# Altium integrated library Maxim Sensors.IntLib: 1171 symbols (part 50 of 61)
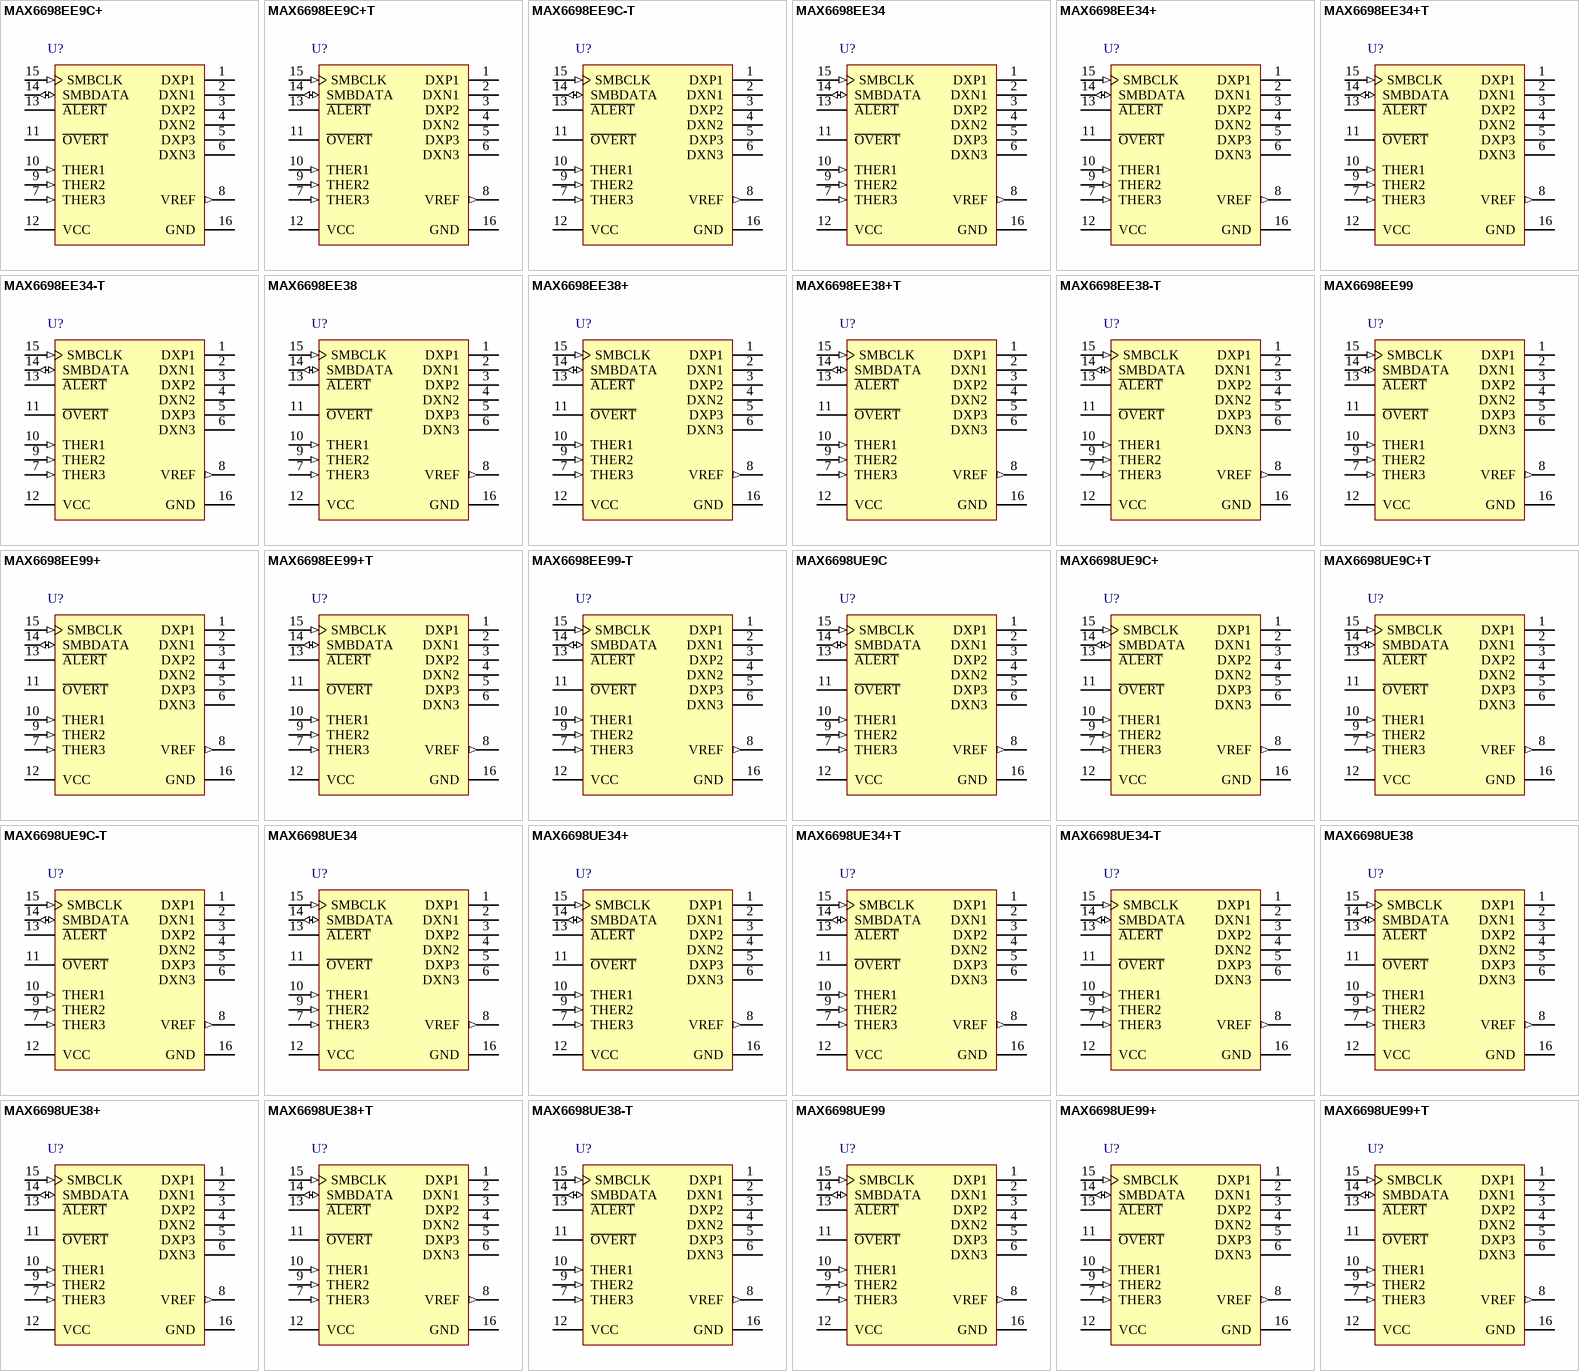
[diagram p82: symbols MAX6698EE9C+ to MAX6698UE99+T]

## MAX6698EE34+
designator U?
7-Channel Precision Remote-Diode, Thermistor, and Local Temperature Monitor, 11 Bits Temperature Resolution, -40 to 125 degC, 16-Pin SOP (E16+1), Pb-Free; Generic Part Number: MAX6698; PartNumber: MAX6698EE34+; Alarm Output: Alert, Overt; Functions: Multi-Channel Temperature Monitor, Thermistor-to-Digital Converter; Interface: 2-Wire/I2C/SMBus; Parasite Pwr.: No; DatasheetVersion: Rev. 3; PackageVersion: Rev. K, 04/2012; PackageReference: E16+1; PackageDescription: 16-Pin Quarter Small-Outline Package (E16+1), Body 4.90 x 3.89 mm, Pitch 0.635 mm; Supplier 1: Digi-Key; Supplier Part Number 1: MAX6698EE34+-ND; Supplier 2: Mouser; Supplier Part Number 2: 700-MAX6698EE34; Mounting Technology: Surface Mount; Code_JEDEC: MO137; ComponentLink1Description: Manufacturer URL; ComponentLink1URL: http://www.maximintegrated.com/; ComponentLink2Description: Datasheet; ComponentLink2URL: http://datasheets.maximintegrated.com/en/ds/MAX6698.pdf; ComponentLink3Description: Package Specification; ComponentLink3URL: http://pdfserv.maximintegrated.com/package_dwgs/21-0055.PDF
footprint MAXM-E16+1_N (SOP, 16-Leads, Body 4.9x3.89mm, Pitch 0.635mm, IPC Medium Density)
footprint MAXM-E16+1_L (SOP, 16-Leads, Body 4.9x3.89mm, Pitch 0.635mm, IPC High Density)
footprint MAXM-E16+1_M (SOP, 16-Leads, Body 4.9x3.89mm, Pitch 0.635mm, IPC Low Density)
pins: 1 DXP1 "Combined Current Source and A/D Positive Input for Channel 1 Remote Diode. Connect to the anode of a remote-diode-connected temperature-sensing transistor. Leave floating or connect to VCC if no remote diode is used. Place a (See Datasheet)", 2 DXN1 "Cathode Input for Channel 1 Remote Diode. Connect the cathode of the channel 1 remote-diodeconnected transistor to DXN1.", 3 DXP2 "Combined Current Source and A/D Positive Input for Channel 2 Remote Diode. Connect to the anode of a remote-diode-connected temperature-sensing transistor. Leave floating or connect to VCC if no remote diode is used. Place a (See Datasheet)", 4 DXN2 "Cathode Input for Channel 2 Remote Diode. Connect the cathode of the channel 2 remote-diodeconnected transistor to DXN2.", 5 DXP3 "Combined Current Source and A/D Positive Input for Channel 3 Remote Diode. Connect to the anode of a remote-diode-connected temperature-sensing transistor. Leave floating or connect to VCC if no remote diode is used. Place a (See Datasheet)", 6 DXN3 "Cathode Input for Channel 3 Remote Diode. Connect the cathode of the channel 1 remote-diodeconnected transistor to DXN3.", 7 THER3 (in) "Thermistor Voltage Sense Input 3. Connect thermistor 3 between THER3 and ground and an external resistor REXT3 between THER3 and VREF.", 8 VREF (out) "Thermistor Reference Voltage (1V Nominal). VREF is automatically enabled for a thermistor conversion, and is disabled for diode measurements.", 9 THER2 (in) "Thermistor Voltage Sense Input 2. Connect thermistor 2 between THER2 and ground and an external resistor REXT3 between THER2 and VREF.", 10 THER1 (in) "Thermistor Voltage Sense Input 1. Connect thermistor 1 between THER1 and ground and an external resistor REXT3 between THER1 and VREF", 11 ~{OVERT} (oc) "Overtemperature Active-Low, Open-Drain Output. O\V\E\R\T\ asserts low when the temperature of channels 1, 4, 5, and 6 exceed the programmed threshold limit.", 12 VCC (power) "Supply Voltage Input. Bypass to GND with a 0.1uF capacitor.", 13 ~{ALERT} (oc) "SMBus Alert (Interrupt), Active-Low, Open-Drain Output. A\L\E\R\T\ asserts low when the temperature of channels 1, 4, 5, and 6 exceed programmed threshold limit.", 14 SMBDATA (io) "SMBus Serial-Data Input/Output. Connect to a pullup resistor.", 15 SMBCLK (in) "SMBus Serial-Clock Input. Connect to a pullup resistor.", 16 GND (power) "Ground"

## MAX6698EE34+T
designator U?
7-Channel Precision Remote-Diode, Thermistor, and Local Temperature Monitor, 11 Bits Temperature Resolution, -40 to 125 degC, 16-Pin SOP (E16+1), Pb-Free, Tape and Reel; Generic Part Number: MAX6698; PartNumber: MAX6698EE34+T; Alarm Output: Alert, Overt; Functions: Multi-Channel Temperature Monitor, Thermistor-to-Digital Converter; Interface: 2-Wire/I2C/SMBus; Parasite Pwr.: No; DatasheetVersion: Rev. 3; PackageVersion: Rev. K, 04/2012; PackageReference: E16+1; PackageDescription: 16-Pin Quarter Small-Outline Package (E16+1), Body 4.90 x 3.89 mm, Pitch 0.635 mm; Supplier 1: Digi-Key; Supplier Part Number 1: MAX6698EE34+T-ND; Supplier 2: Mouser; Supplier Part Number 2: 700-MAX6698EE34T; Packing: Tape and Reel; Mounting Technology: Surface Mount; Code_JEDEC: MO137; ComponentLink1Description: Manufacturer URL; ComponentLink1URL: http://www.maximintegrated.com/; ComponentLink2Description: Datasheet; ComponentLink2URL: http://datasheets.maximintegrated.com/en/ds/MAX6698.pdf; ComponentLink3Description: Package Specification; ComponentLink3URL: http://pdfserv.maximintegrated.com/package_dwgs/21-0055.PDF
footprint MAXM-E16+1_N (SOP, 16-Leads, Body 4.9x3.89mm, Pitch 0.635mm, IPC Medium Density)
footprint MAXM-E16+1_L (SOP, 16-Leads, Body 4.9x3.89mm, Pitch 0.635mm, IPC High Density)
footprint MAXM-E16+1_M (SOP, 16-Leads, Body 4.9x3.89mm, Pitch 0.635mm, IPC Low Density)
pins: 1 DXP1 "Combined Current Source and A/D Positive Input for Channel 1 Remote Diode. Connect to the anode of a remote-diode-connected temperature-sensing transistor. Leave floating or connect to VCC if no remote diode is used. Place a (See Datasheet)", 2 DXN1 "Cathode Input for Channel 1 Remote Diode. Connect the cathode of the channel 1 remote-diodeconnected transistor to DXN1.", 3 DXP2 "Combined Current Source and A/D Positive Input for Channel 2 Remote Diode. Connect to the anode of a remote-diode-connected temperature-sensing transistor. Leave floating or connect to VCC if no remote diode is used. Place a (See Datasheet)", 4 DXN2 "Cathode Input for Channel 2 Remote Diode. Connect the cathode of the channel 2 remote-diodeconnected transistor to DXN2.", 5 DXP3 "Combined Current Source and A/D Positive Input for Channel 3 Remote Diode. Connect to the anode of a remote-diode-connected temperature-sensing transistor. Leave floating or connect to VCC if no remote diode is used. Place a (See Datasheet)", 6 DXN3 "Cathode Input for Channel 3 Remote Diode. Connect the cathode of the channel 1 remote-diodeconnected transistor to DXN3.", 7 THER3 (in) "Thermistor Voltage Sense Input 3. Connect thermistor 3 between THER3 and ground and an external resistor REXT3 between THER3 and VREF.", 8 VREF (out) "Thermistor Reference Voltage (1V Nominal). VREF is automatically enabled for a thermistor conversion, and is disabled for diode measurements.", 9 THER2 (in) "Thermistor Voltage Sense Input 2. Connect thermistor 2 between THER2 and ground and an external resistor REXT3 between THER2 and VREF.", 10 THER1 (in) "Thermistor Voltage Sense Input 1. Connect thermistor 1 between THER1 and ground and an external resistor REXT3 between THER1 and VREF", 11 ~{OVERT} (oc) "Overtemperature Active-Low, Open-Drain Output. O\V\E\R\T\ asserts low when the temperature of channels 1, 4, 5, and 6 exceed the programmed threshold limit.", 12 VCC (power) "Supply Voltage Input. Bypass to GND with a 0.1uF capacitor.", 13 ~{ALERT} (oc) "SMBus Alert (Interrupt), Active-Low, Open-Drain Output. A\L\E\R\T\ asserts low when the temperature of channels 1, 4, 5, and 6 exceed programmed threshold limit.", 14 SMBDATA (io) "SMBus Serial-Data Input/Output. Connect to a pullup resistor.", 15 SMBCLK (in) "SMBus Serial-Clock Input. Connect to a pullup resistor.", 16 GND (power) "Ground"

## MAX6698EE34-T
designator U?
7-Channel Precision Remote-Diode, Thermistor, and Local Temperature Monitor, 11 Bits Temperature Resolution, -40 to 125 degC, 16-Pin SOP (E16-1), Tape and Reel; Generic Part Number: MAX6698; PartNumber: MAX6698EE34-T; Alarm Output: Alert, Overt; Functions: Multi-Channel Temperature Monitor, Thermistor-to-Digital Converter; Interface: 2-Wire/I2C/SMBus; Parasite Pwr.: No; DatasheetVersion: Rev. 3; PackageVersion: Rev. K, 04/2012; PackageReference: E16-1; PackageDescription: 16-Pin Quarter Small-Outline Package (E16-1), Body 4.90 x 3.89 mm, Pitch 0.635 mm; Supplier 1: Mouser; Supplier Part Number 1: N/A; Packing: Tape and Reel; Mounting Technology: Surface Mount; Code_JEDEC: MO137; ComponentLink1Description: Manufacturer URL; ComponentLink1URL: http://www.maximintegrated.com/; ComponentLink2Description: Datasheet; ComponentLink2URL: http://datasheets.maximintegrated.com/en/ds/MAX6698.pdf; ComponentLink3Description: Package Specification; ComponentLink3URL: http://pdfserv.maximintegrated.com/package_dwgs/21-0055.PDF
footprint MAXM-E16-1_N (SOP, 16-Leads, Body 4.9x3.89mm, Pitch 0.635mm, IPC Medium Density)
footprint MAXM-E16-1_L (SOP, 16-Leads, Body 4.9x3.89mm, Pitch 0.635mm, IPC High Density)
footprint MAXM-E16-1_M (SOP, 16-Leads, Body 4.9x3.89mm, Pitch 0.635mm, IPC Low Density)
pins: 1 DXP1 "Combined Current Source and A/D Positive Input for Channel 1 Remote Diode. Connect to the anode of a remote-diode-connected temperature-sensing transistor. Leave floating or connect to VCC if no remote diode is used. Place a (See Datasheet)", 2 DXN1 "Cathode Input for Channel 1 Remote Diode. Connect the cathode of the channel 1 remote-diodeconnected transistor to DXN1.", 3 DXP2 "Combined Current Source and A/D Positive Input for Channel 2 Remote Diode. Connect to the anode of a remote-diode-connected temperature-sensing transistor. Leave floating or connect to VCC if no remote diode is used. Place a (See Datasheet)", 4 DXN2 "Cathode Input for Channel 2 Remote Diode. Connect the cathode of the channel 2 remote-diodeconnected transistor to DXN2.", 5 DXP3 "Combined Current Source and A/D Positive Input for Channel 3 Remote Diode. Connect to the anode of a remote-diode-connected temperature-sensing transistor. Leave floating or connect to VCC if no remote diode is used. Place a (See Datasheet)", 6 DXN3 "Cathode Input for Channel 3 Remote Diode. Connect the cathode of the channel 1 remote-diodeconnected transistor to DXN3.", 7 THER3 (in) "Thermistor Voltage Sense Input 3. Connect thermistor 3 between THER3 and ground and an external resistor REXT3 between THER3 and VREF.", 8 VREF (out) "Thermistor Reference Voltage (1V Nominal). VREF is automatically enabled for a thermistor conversion, and is disabled for diode measurements.", 9 THER2 (in) "Thermistor Voltage Sense Input 2. Connect thermistor 2 between THER2 and ground and an external resistor REXT3 between THER2 and VREF.", 10 THER1 (in) "Thermistor Voltage Sense Input 1. Connect thermistor 1 between THER1 and ground and an external resistor REXT3 between THER1 and VREF", 11 ~{OVERT} (oc) "Overtemperature Active-Low, Open-Drain Output. O\V\E\R\T\ asserts low when the temperature of channels 1, 4, 5, and 6 exceed the programmed threshold limit.", 12 VCC (power) "Supply Voltage Input. Bypass to GND with a 0.1uF capacitor.", 13 ~{ALERT} (oc) "SMBus Alert (Interrupt), Active-Low, Open-Drain Output. A\L\E\R\T\ asserts low when the temperature of channels 1, 4, 5, and 6 exceed programmed threshold limit.", 14 SMBDATA (io) "SMBus Serial-Data Input/Output. Connect to a pullup resistor.", 15 SMBCLK (in) "SMBus Serial-Clock Input. Connect to a pullup resistor.", 16 GND (power) "Ground"

## MAX6698EE38
designator U?
7-Channel Precision Remote-Diode, Thermistor, and Local Temperature Monitor, 11 Bits Temperature Resolution, -40 to 125 degC, 16-Pin SOP (E16-1); Generic Part Number: MAX6698; PartNumber: MAX6698EE38; Alarm Output: Alert, Overt; Functions: Multi-Channel Temperature Monitor, Thermistor-to-Digital Converter; Interface: 2-Wire/I2C/SMBus; Parasite Pwr.: No; DatasheetVersion: Rev. 3; PackageVersion: Rev. K, 04/2012; PackageReference: E16-1; PackageDescription: 16-Pin Quarter Small-Outline Package (E16-1), Body 4.90 x 3.89 mm, Pitch 0.635 mm; Supplier 1: Mouser; Supplier Part Number 1: N/A; Mounting Technology: Surface Mount; Code_JEDEC: MO137; ComponentLink1Description: Manufacturer URL; ComponentLink1URL: http://www.maximintegrated.com/; ComponentLink2Description: Datasheet; ComponentLink2URL: http://datasheets.maximintegrated.com/en/ds/MAX6698.pdf; ComponentLink3Description: Package Specification; ComponentLink3URL: http://pdfserv.maximintegrated.com/package_dwgs/21-0055.PDF
footprint MAXM-E16-1_N (SOP, 16-Leads, Body 4.9x3.89mm, Pitch 0.635mm, IPC Medium Density)
footprint MAXM-E16-1_L (SOP, 16-Leads, Body 4.9x3.89mm, Pitch 0.635mm, IPC High Density)
footprint MAXM-E16-1_M (SOP, 16-Leads, Body 4.9x3.89mm, Pitch 0.635mm, IPC Low Density)
pins: 1 DXP1 "Combined Current Source and A/D Positive Input for Channel 1 Remote Diode. Connect to the anode of a remote-diode-connected temperature-sensing transistor. Leave floating or connect to VCC if no remote diode is used. Place a (See Datasheet)", 2 DXN1 "Cathode Input for Channel 1 Remote Diode. Connect the cathode of the channel 1 remote-diodeconnected transistor to DXN1.", 3 DXP2 "Combined Current Source and A/D Positive Input for Channel 2 Remote Diode. Connect to the anode of a remote-diode-connected temperature-sensing transistor. Leave floating or connect to VCC if no remote diode is used. Place a (See Datasheet)", 4 DXN2 "Cathode Input for Channel 2 Remote Diode. Connect the cathode of the channel 2 remote-diodeconnected transistor to DXN2.", 5 DXP3 "Combined Current Source and A/D Positive Input for Channel 3 Remote Diode. Connect to the anode of a remote-diode-connected temperature-sensing transistor. Leave floating or connect to VCC if no remote diode is used. Place a (See Datasheet)", 6 DXN3 "Cathode Input for Channel 3 Remote Diode. Connect the cathode of the channel 1 remote-diodeconnected transistor to DXN3.", 7 THER3 (in) "Thermistor Voltage Sense Input 3. Connect thermistor 3 between THER3 and ground and an external resistor REXT3 between THER3 and VREF.", 8 VREF (out) "Thermistor Reference Voltage (1V Nominal). VREF is automatically enabled for a thermistor conversion, and is disabled for diode measurements.", 9 THER2 (in) "Thermistor Voltage Sense Input 2. Connect thermistor 2 between THER2 and ground and an external resistor REXT3 between THER2 and VREF.", 10 THER1 (in) "Thermistor Voltage Sense Input 1. Connect thermistor 1 between THER1 and ground and an external resistor REXT3 between THER1 and VREF", 11 ~{OVERT} (oc) "Overtemperature Active-Low, Open-Drain Output. O\V\E\R\T\ asserts low when the temperature of channels 1, 4, 5, and 6 exceed the programmed threshold limit.", 12 VCC (power) "Supply Voltage Input. Bypass to GND with a 0.1uF capacitor.", 13 ~{ALERT} (oc) "SMBus Alert (Interrupt), Active-Low, Open-Drain Output. A\L\E\R\T\ asserts low when the temperature of channels 1, 4, 5, and 6 exceed programmed threshold limit.", 14 SMBDATA (io) "SMBus Serial-Data Input/Output. Connect to a pullup resistor.", 15 SMBCLK (in) "SMBus Serial-Clock Input. Connect to a pullup resistor.", 16 GND (power) "Ground"

## MAX6698EE38+
designator U?
7-Channel Precision Remote-Diode, Thermistor, and Local Temperature Monitor, 11 Bits Temperature Resolution, -40 to 125 degC, 16-Pin SOP (E16+1), Pb-Free; Generic Part Number: MAX6698; PartNumber: MAX6698EE38+; Alarm Output: Alert, Overt; Functions: Multi-Channel Temperature Monitor, Thermistor-to-Digital Converter; Interface: 2-Wire/I2C/SMBus; Parasite Pwr.: No; DatasheetVersion: Rev. 3; PackageVersion: Rev. K, 04/2012; PackageReference: E16+1; PackageDescription: 16-Pin Quarter Small-Outline Package (E16+1), Body 4.90 x 3.89 mm, Pitch 0.635 mm; Supplier 1: Digi-Key; Supplier Part Number 1: MAX6698EE38+-ND; Supplier 2: Mouser; Supplier Part Number 2: 700-MAX6698EE38+; Mounting Technology: Surface Mount; Code_JEDEC: MO137; ComponentLink1Description: Manufacturer URL; ComponentLink1URL: http://www.maximintegrated.com/; ComponentLink2Description: Datasheet; ComponentLink2URL: http://datasheets.maximintegrated.com/en/ds/MAX6698.pdf; ComponentLink3Description: Package Specification; ComponentLink3URL: http://pdfserv.maximintegrated.com/package_dwgs/21-0055.PDF
footprint MAXM-E16+1_N (SOP, 16-Leads, Body 4.9x3.89mm, Pitch 0.635mm, IPC Medium Density)
footprint MAXM-E16+1_L (SOP, 16-Leads, Body 4.9x3.89mm, Pitch 0.635mm, IPC High Density)
footprint MAXM-E16+1_M (SOP, 16-Leads, Body 4.9x3.89mm, Pitch 0.635mm, IPC Low Density)
pins: 1 DXP1 "Combined Current Source and A/D Positive Input for Channel 1 Remote Diode. Connect to the anode of a remote-diode-connected temperature-sensing transistor. Leave floating or connect to VCC if no remote diode is used. Place a (See Datasheet)", 2 DXN1 "Cathode Input for Channel 1 Remote Diode. Connect the cathode of the channel 1 remote-diodeconnected transistor to DXN1.", 3 DXP2 "Combined Current Source and A/D Positive Input for Channel 2 Remote Diode. Connect to the anode of a remote-diode-connected temperature-sensing transistor. Leave floating or connect to VCC if no remote diode is used. Place a (See Datasheet)", 4 DXN2 "Cathode Input for Channel 2 Remote Diode. Connect the cathode of the channel 2 remote-diodeconnected transistor to DXN2.", 5 DXP3 "Combined Current Source and A/D Positive Input for Channel 3 Remote Diode. Connect to the anode of a remote-diode-connected temperature-sensing transistor. Leave floating or connect to VCC if no remote diode is used. Place a (See Datasheet)", 6 DXN3 "Cathode Input for Channel 3 Remote Diode. Connect the cathode of the channel 1 remote-diodeconnected transistor to DXN3.", 7 THER3 (in) "Thermistor Voltage Sense Input 3. Connect thermistor 3 between THER3 and ground and an external resistor REXT3 between THER3 and VREF.", 8 VREF (out) "Thermistor Reference Voltage (1V Nominal). VREF is automatically enabled for a thermistor conversion, and is disabled for diode measurements.", 9 THER2 (in) "Thermistor Voltage Sense Input 2. Connect thermistor 2 between THER2 and ground and an external resistor REXT3 between THER2 and VREF.", 10 THER1 (in) "Thermistor Voltage Sense Input 1. Connect thermistor 1 between THER1 and ground and an external resistor REXT3 between THER1 and VREF", 11 ~{OVERT} (oc) "Overtemperature Active-Low, Open-Drain Output. O\V\E\R\T\ asserts low when the temperature of channels 1, 4, 5, and 6 exceed the programmed threshold limit.", 12 VCC (power) "Supply Voltage Input. Bypass to GND with a 0.1uF capacitor.", 13 ~{ALERT} (oc) "SMBus Alert (Interrupt), Active-Low, Open-Drain Output. A\L\E\R\T\ asserts low when the temperature of channels 1, 4, 5, and 6 exceed programmed threshold limit.", 14 SMBDATA (io) "SMBus Serial-Data Input/Output. Connect to a pullup resistor.", 15 SMBCLK (in) "SMBus Serial-Clock Input. Connect to a pullup resistor.", 16 GND (power) "Ground"

## MAX6698EE38+T
designator U?
7-Channel Precision Remote-Diode, Thermistor, and Local Temperature Monitor, 11 Bits Temperature Resolution, -40 to 125 degC, 16-Pin SOP (E16+1), Pb-Free, Tape and Reel; Generic Part Number: MAX6698; PartNumber: MAX6698EE38+T; Alarm Output: Alert, Overt; Functions: Multi-Channel Temperature Monitor, Thermistor-to-Digital Converter; Interface: 2-Wire/I2C/SMBus; Parasite Pwr.: No; DatasheetVersion: Rev. 3; PackageVersion: Rev. K, 04/2012; PackageReference: E16+1; PackageDescription: 16-Pin Quarter Small-Outline Package (E16+1), Body 4.90 x 3.89 mm, Pitch 0.635 mm; Supplier 1: Digi-Key; Supplier Part Number 1: MAX6698EE38+TTR-ND; Supplier 2: Digi-Key; Supplier Part Number 2: MAX6698EE38+TCT-ND; Supplier 3: Digi-Key; Supplier Part Number 3: MAX6698EE38+TDKR-ND; Supplier 4: Mouser; Supplier Part Number 4: 700-MAX6698EE38+T; Packing: Tape and Reel; Mounting Technology: Surface Mount; Code_JEDEC: MO137; ComponentLink1Description: Manufacturer URL; ComponentLink1URL: http://www.maximintegrated.com/; ComponentLink2Description: Datasheet; ComponentLink2URL: http://datasheets.maximintegrated.com/en/ds/MAX6698.pdf; ComponentLink3Description: Package Specification; ComponentLink3URL: http://pdfserv.maximintegrated.com/package_dwgs/21-0055.PDF
footprint MAXM-E16+1_N (SOP, 16-Leads, Body 4.9x3.89mm, Pitch 0.635mm, IPC Medium Density)
footprint MAXM-E16+1_L (SOP, 16-Leads, Body 4.9x3.89mm, Pitch 0.635mm, IPC High Density)
footprint MAXM-E16+1_M (SOP, 16-Leads, Body 4.9x3.89mm, Pitch 0.635mm, IPC Low Density)
pins: 1 DXP1 "Combined Current Source and A/D Positive Input for Channel 1 Remote Diode. Connect to the anode of a remote-diode-connected temperature-sensing transistor. Leave floating or connect to VCC if no remote diode is used. Place a (See Datasheet)", 2 DXN1 "Cathode Input for Channel 1 Remote Diode. Connect the cathode of the channel 1 remote-diodeconnected transistor to DXN1.", 3 DXP2 "Combined Current Source and A/D Positive Input for Channel 2 Remote Diode. Connect to the anode of a remote-diode-connected temperature-sensing transistor. Leave floating or connect to VCC if no remote diode is used. Place a (See Datasheet)", 4 DXN2 "Cathode Input for Channel 2 Remote Diode. Connect the cathode of the channel 2 remote-diodeconnected transistor to DXN2.", 5 DXP3 "Combined Current Source and A/D Positive Input for Channel 3 Remote Diode. Connect to the anode of a remote-diode-connected temperature-sensing transistor. Leave floating or connect to VCC if no remote diode is used. Place a (See Datasheet)", 6 DXN3 "Cathode Input for Channel 3 Remote Diode. Connect the cathode of the channel 1 remote-diodeconnected transistor to DXN3.", 7 THER3 (in) "Thermistor Voltage Sense Input 3. Connect thermistor 3 between THER3 and ground and an external resistor REXT3 between THER3 and VREF.", 8 VREF (out) "Thermistor Reference Voltage (1V Nominal). VREF is automatically enabled for a thermistor conversion, and is disabled for diode measurements.", 9 THER2 (in) "Thermistor Voltage Sense Input 2. Connect thermistor 2 between THER2 and ground and an external resistor REXT3 between THER2 and VREF.", 10 THER1 (in) "Thermistor Voltage Sense Input 1. Connect thermistor 1 between THER1 and ground and an external resistor REXT3 between THER1 and VREF", 11 ~{OVERT} (oc) "Overtemperature Active-Low, Open-Drain Output. O\V\E\R\T\ asserts low when the temperature of channels 1, 4, 5, and 6 exceed the programmed threshold limit.", 12 VCC (power) "Supply Voltage Input. Bypass to GND with a 0.1uF capacitor.", 13 ~{ALERT} (oc) "SMBus Alert (Interrupt), Active-Low, Open-Drain Output. A\L\E\R\T\ asserts low when the temperature of channels 1, 4, 5, and 6 exceed programmed threshold limit.", 14 SMBDATA (io) "SMBus Serial-Data Input/Output. Connect to a pullup resistor.", 15 SMBCLK (in) "SMBus Serial-Clock Input. Connect to a pullup resistor.", 16 GND (power) "Ground"

## MAX6698EE38-T
designator U?
7-Channel Precision Remote-Diode, Thermistor, and Local Temperature Monitor, 11 Bits Temperature Resolution, -40 to 125 degC, 16-Pin SOP (E16-1), Tape and Reel; Generic Part Number: MAX6698; PartNumber: MAX6698EE38-T; Alarm Output: Alert, Overt; Functions: Multi-Channel Temperature Monitor, Thermistor-to-Digital Converter; Interface: 2-Wire/I2C/SMBus; Parasite Pwr.: No; DatasheetVersion: Rev. 3; PackageVersion: Rev. K, 04/2012; PackageReference: E16-1; PackageDescription: 16-Pin Quarter Small-Outline Package (E16-1), Body 4.90 x 3.89 mm, Pitch 0.635 mm; Supplier 1: Mouser; Supplier Part Number 1: N/A; Packing: Tape and Reel; Mounting Technology: Surface Mount; Code_JEDEC: MO137; ComponentLink1Description: Manufacturer URL; ComponentLink1URL: http://www.maximintegrated.com/; ComponentLink2Description: Datasheet; ComponentLink2URL: http://datasheets.maximintegrated.com/en/ds/MAX6698.pdf; ComponentLink3Description: Package Specification; ComponentLink3URL: http://pdfserv.maximintegrated.com/package_dwgs/21-0055.PDF
footprint MAXM-E16-1_N (SOP, 16-Leads, Body 4.9x3.89mm, Pitch 0.635mm, IPC Medium Density)
footprint MAXM-E16-1_L (SOP, 16-Leads, Body 4.9x3.89mm, Pitch 0.635mm, IPC High Density)
footprint MAXM-E16-1_M (SOP, 16-Leads, Body 4.9x3.89mm, Pitch 0.635mm, IPC Low Density)
pins: 1 DXP1 "Combined Current Source and A/D Positive Input for Channel 1 Remote Diode. Connect to the anode of a remote-diode-connected temperature-sensing transistor. Leave floating or connect to VCC if no remote diode is used. Place a (See Datasheet)", 2 DXN1 "Cathode Input for Channel 1 Remote Diode. Connect the cathode of the channel 1 remote-diodeconnected transistor to DXN1.", 3 DXP2 "Combined Current Source and A/D Positive Input for Channel 2 Remote Diode. Connect to the anode of a remote-diode-connected temperature-sensing transistor. Leave floating or connect to VCC if no remote diode is used. Place a (See Datasheet)", 4 DXN2 "Cathode Input for Channel 2 Remote Diode. Connect the cathode of the channel 2 remote-diodeconnected transistor to DXN2.", 5 DXP3 "Combined Current Source and A/D Positive Input for Channel 3 Remote Diode. Connect to the anode of a remote-diode-connected temperature-sensing transistor. Leave floating or connect to VCC if no remote diode is used. Place a (See Datasheet)", 6 DXN3 "Cathode Input for Channel 3 Remote Diode. Connect the cathode of the channel 1 remote-diodeconnected transistor to DXN3.", 7 THER3 (in) "Thermistor Voltage Sense Input 3. Connect thermistor 3 between THER3 and ground and an external resistor REXT3 between THER3 and VREF.", 8 VREF (out) "Thermistor Reference Voltage (1V Nominal). VREF is automatically enabled for a thermistor conversion, and is disabled for diode measurements.", 9 THER2 (in) "Thermistor Voltage Sense Input 2. Connect thermistor 2 between THER2 and ground and an external resistor REXT3 between THER2 and VREF.", 10 THER1 (in) "Thermistor Voltage Sense Input 1. Connect thermistor 1 between THER1 and ground and an external resistor REXT3 between THER1 and VREF", 11 ~{OVERT} (oc) "Overtemperature Active-Low, Open-Drain Output. O\V\E\R\T\ asserts low when the temperature of channels 1, 4, 5, and 6 exceed the programmed threshold limit.", 12 VCC (power) "Supply Voltage Input. Bypass to GND with a 0.1uF capacitor.", 13 ~{ALERT} (oc) "SMBus Alert (Interrupt), Active-Low, Open-Drain Output. A\L\E\R\T\ asserts low when the temperature of channels 1, 4, 5, and 6 exceed programmed threshold limit.", 14 SMBDATA (io) "SMBus Serial-Data Input/Output. Connect to a pullup resistor.", 15 SMBCLK (in) "SMBus Serial-Clock Input. Connect to a pullup resistor.", 16 GND (power) "Ground"

## MAX6698EE99
designator U?
7-Channel Precision Remote-Diode, Thermistor, and Local Temperature Monitor, 11 Bits Temperature Resolution, -40 to 125 degC, 16-Pin SOP (E16-1); Generic Part Number: MAX6698; PartNumber: MAX6698EE99; Alarm Output: Alert, Overt; Functions: Multi-Channel Temperature Monitor, Thermistor-to-Digital Converter; Interface: 2-Wire/I2C/SMBus; Parasite Pwr.: No; DatasheetVersion: Rev. 3; PackageVersion: Rev. K, 04/2012; PackageReference: E16-1; PackageDescription: 16-Pin Quarter Small-Outline Package (E16-1), Body 4.90 x 3.89 mm, Pitch 0.635 mm; Supplier 1: Mouser; Supplier Part Number 1: N/A; Mounting Technology: Surface Mount; Code_JEDEC: MO137; ComponentLink1Description: Manufacturer URL; ComponentLink1URL: http://www.maximintegrated.com/; ComponentLink2Description: Datasheet; ComponentLink2URL: http://datasheets.maximintegrated.com/en/ds/MAX6698.pdf; ComponentLink3Description: Package Specification; ComponentLink3URL: http://pdfserv.maximintegrated.com/package_dwgs/21-0055.PDF
footprint MAXM-E16-1_N (SOP, 16-Leads, Body 4.9x3.89mm, Pitch 0.635mm, IPC Medium Density)
footprint MAXM-E16-1_L (SOP, 16-Leads, Body 4.9x3.89mm, Pitch 0.635mm, IPC High Density)
footprint MAXM-E16-1_M (SOP, 16-Leads, Body 4.9x3.89mm, Pitch 0.635mm, IPC Low Density)
pins: 1 DXP1 "Combined Current Source and A/D Positive Input for Channel 1 Remote Diode. Connect to the anode of a remote-diode-connected temperature-sensing transistor. Leave floating or connect to VCC if no remote diode is used. Place a (See Datasheet)", 2 DXN1 "Cathode Input for Channel 1 Remote Diode. Connect the cathode of the channel 1 remote-diodeconnected transistor to DXN1.", 3 DXP2 "Combined Current Source and A/D Positive Input for Channel 2 Remote Diode. Connect to the anode of a remote-diode-connected temperature-sensing transistor. Leave floating or connect to VCC if no remote diode is used. Place a (See Datasheet)", 4 DXN2 "Cathode Input for Channel 2 Remote Diode. Connect the cathode of the channel 2 remote-diodeconnected transistor to DXN2.", 5 DXP3 "Combined Current Source and A/D Positive Input for Channel 3 Remote Diode. Connect to the anode of a remote-diode-connected temperature-sensing transistor. Leave floating or connect to VCC if no remote diode is used. Place a (See Datasheet)", 6 DXN3 "Cathode Input for Channel 3 Remote Diode. Connect the cathode of the channel 1 remote-diodeconnected transistor to DXN3.", 7 THER3 (in) "Thermistor Voltage Sense Input 3. Connect thermistor 3 between THER3 and ground and an external resistor REXT3 between THER3 and VREF.", 8 VREF (out) "Thermistor Reference Voltage (1V Nominal). VREF is automatically enabled for a thermistor conversion, and is disabled for diode measurements.", 9 THER2 (in) "Thermistor Voltage Sense Input 2. Connect thermistor 2 between THER2 and ground and an external resistor REXT3 between THER2 and VREF.", 10 THER1 (in) "Thermistor Voltage Sense Input 1. Connect thermistor 1 between THER1 and ground and an external resistor REXT3 between THER1 and VREF", 11 ~{OVERT} (oc) "Overtemperature Active-Low, Open-Drain Output. O\V\E\R\T\ asserts low when the temperature of channels 1, 4, 5, and 6 exceed the programmed threshold limit.", 12 VCC (power) "Supply Voltage Input. Bypass to GND with a 0.1uF capacitor.", 13 ~{ALERT} (oc) "SMBus Alert (Interrupt), Active-Low, Open-Drain Output. A\L\E\R\T\ asserts low when the temperature of channels 1, 4, 5, and 6 exceed programmed threshold limit.", 14 SMBDATA (io) "SMBus Serial-Data Input/Output. Connect to a pullup resistor.", 15 SMBCLK (in) "SMBus Serial-Clock Input. Connect to a pullup resistor.", 16 GND (power) "Ground"

## MAX6698EE99+
designator U?
7-Channel Precision Remote-Diode, Thermistor, and Local Temperature Monitor, 11 Bits Temperature Resolution, -40 to 125 degC, 16-Pin SOP (E16+1), Pb-Free; Generic Part Number: MAX6698; PartNumber: MAX6698EE99+; Alarm Output: Alert, Overt; Functions: Multi-Channel Temperature Monitor, Thermistor-to-Digital Converter; Interface: 2-Wire/I2C/SMBus; Parasite Pwr.: No; DatasheetVersion: Rev. 3; PackageVersion: Rev. K, 04/2012; PackageReference: E16+1; PackageDescription: 16-Pin Quarter Small-Outline Package (E16+1), Body 4.90 x 3.89 mm, Pitch 0.635 mm; Supplier 1: Digi-Key; Supplier Part Number 1: MAX6698EE99+-ND; Supplier 2: Mouser; Supplier Part Number 2: 700-MAX6698EE99; Mounting Technology: Surface Mount; Code_JEDEC: MO137; ComponentLink1Description: Manufacturer URL; ComponentLink1URL: http://www.maximintegrated.com/; ComponentLink2Description: Datasheet; ComponentLink2URL: http://datasheets.maximintegrated.com/en/ds/MAX6698.pdf; ComponentLink3Description: Package Specification; ComponentLink3URL: http://pdfserv.maximintegrated.com/package_dwgs/21-0055.PDF
footprint MAXM-E16+1_N (SOP, 16-Leads, Body 4.9x3.89mm, Pitch 0.635mm, IPC Medium Density)
footprint MAXM-E16+1_L (SOP, 16-Leads, Body 4.9x3.89mm, Pitch 0.635mm, IPC High Density)
footprint MAXM-E16+1_M (SOP, 16-Leads, Body 4.9x3.89mm, Pitch 0.635mm, IPC Low Density)
pins: 1 DXP1 "Combined Current Source and A/D Positive Input for Channel 1 Remote Diode. Connect to the anode of a remote-diode-connected temperature-sensing transistor. Leave floating or connect to VCC if no remote diode is used. Place a (See Datasheet)", 2 DXN1 "Cathode Input for Channel 1 Remote Diode. Connect the cathode of the channel 1 remote-diodeconnected transistor to DXN1.", 3 DXP2 "Combined Current Source and A/D Positive Input for Channel 2 Remote Diode. Connect to the anode of a remote-diode-connected temperature-sensing transistor. Leave floating or connect to VCC if no remote diode is used. Place a (See Datasheet)", 4 DXN2 "Cathode Input for Channel 2 Remote Diode. Connect the cathode of the channel 2 remote-diodeconnected transistor to DXN2.", 5 DXP3 "Combined Current Source and A/D Positive Input for Channel 3 Remote Diode. Connect to the anode of a remote-diode-connected temperature-sensing transistor. Leave floating or connect to VCC if no remote diode is used. Place a (See Datasheet)", 6 DXN3 "Cathode Input for Channel 3 Remote Diode. Connect the cathode of the channel 1 remote-diodeconnected transistor to DXN3.", 7 THER3 (in) "Thermistor Voltage Sense Input 3. Connect thermistor 3 between THER3 and ground and an external resistor REXT3 between THER3 and VREF.", 8 VREF (out) "Thermistor Reference Voltage (1V Nominal). VREF is automatically enabled for a thermistor conversion, and is disabled for diode measurements.", 9 THER2 (in) "Thermistor Voltage Sense Input 2. Connect thermistor 2 between THER2 and ground and an external resistor REXT3 between THER2 and VREF.", 10 THER1 (in) "Thermistor Voltage Sense Input 1. Connect thermistor 1 between THER1 and ground and an external resistor REXT3 between THER1 and VREF", 11 ~{OVERT} (oc) "Overtemperature Active-Low, Open-Drain Output. O\V\E\R\T\ asserts low when the temperature of channels 1, 4, 5, and 6 exceed the programmed threshold limit.", 12 VCC (power) "Supply Voltage Input. Bypass to GND with a 0.1uF capacitor.", 13 ~{ALERT} (oc) "SMBus Alert (Interrupt), Active-Low, Open-Drain Output. A\L\E\R\T\ asserts low when the temperature of channels 1, 4, 5, and 6 exceed programmed threshold limit.", 14 SMBDATA (io) "SMBus Serial-Data Input/Output. Connect to a pullup resistor.", 15 SMBCLK (in) "SMBus Serial-Clock Input. Connect to a pullup resistor.", 16 GND (power) "Ground"

## MAX6698EE99+T
designator U?
7-Channel Precision Remote-Diode, Thermistor, and Local Temperature Monitor, 11 Bits Temperature Resolution, -40 to 125 degC, 16-Pin SOP (E16+1), Pb-Free, Tape and Reel; Generic Part Number: MAX6698; PartNumber: MAX6698EE99+T; Alarm Output: Alert, Overt; Functions: Multi-Channel Temperature Monitor, Thermistor-to-Digital Converter; Interface: 2-Wire/I2C/SMBus; Parasite Pwr.: No; DatasheetVersion: Rev. 3; PackageVersion: Rev. K, 04/2012; PackageReference: E16+1; PackageDescription: 16-Pin Quarter Small-Outline Package (E16+1), Body 4.90 x 3.89 mm, Pitch 0.635 mm; Supplier 1: Digi-Key; Supplier Part Number 1: MAX6698EE99+T-ND; Supplier 2: Mouser; Supplier Part Number 2: 700-MAX6698EE99T; Packing: Tape and Reel; Mounting Technology: Surface Mount; Code_JEDEC: MO137; ComponentLink1Description: Manufacturer URL; ComponentLink1URL: http://www.maximintegrated.com/; ComponentLink2Description: Datasheet; ComponentLink2URL: http://datasheets.maximintegrated.com/en/ds/MAX6698.pdf; ComponentLink3Description: Package Specification; ComponentLink3URL: http://pdfserv.maximintegrated.com/package_dwgs/21-0055.PDF
footprint MAXM-E16+1_N (SOP, 16-Leads, Body 4.9x3.89mm, Pitch 0.635mm, IPC Medium Density)
footprint MAXM-E16+1_L (SOP, 16-Leads, Body 4.9x3.89mm, Pitch 0.635mm, IPC High Density)
footprint MAXM-E16+1_M (SOP, 16-Leads, Body 4.9x3.89mm, Pitch 0.635mm, IPC Low Density)
pins: 1 DXP1 "Combined Current Source and A/D Positive Input for Channel 1 Remote Diode. Connect to the anode of a remote-diode-connected temperature-sensing transistor. Leave floating or connect to VCC if no remote diode is used. Place a (See Datasheet)", 2 DXN1 "Cathode Input for Channel 1 Remote Diode. Connect the cathode of the channel 1 remote-diodeconnected transistor to DXN1.", 3 DXP2 "Combined Current Source and A/D Positive Input for Channel 2 Remote Diode. Connect to the anode of a remote-diode-connected temperature-sensing transistor. Leave floating or connect to VCC if no remote diode is used. Place a (See Datasheet)", 4 DXN2 "Cathode Input for Channel 2 Remote Diode. Connect the cathode of the channel 2 remote-diodeconnected transistor to DXN2.", 5 DXP3 "Combined Current Source and A/D Positive Input for Channel 3 Remote Diode. Connect to the anode of a remote-diode-connected temperature-sensing transistor. Leave floating or connect to VCC if no remote diode is used. Place a (See Datasheet)", 6 DXN3 "Cathode Input for Channel 3 Remote Diode. Connect the cathode of the channel 1 remote-diodeconnected transistor to DXN3.", 7 THER3 (in) "Thermistor Voltage Sense Input 3. Connect thermistor 3 between THER3 and ground and an external resistor REXT3 between THER3 and VREF.", 8 VREF (out) "Thermistor Reference Voltage (1V Nominal). VREF is automatically enabled for a thermistor conversion, and is disabled for diode measurements.", 9 THER2 (in) "Thermistor Voltage Sense Input 2. Connect thermistor 2 between THER2 and ground and an external resistor REXT3 between THER2 and VREF.", 10 THER1 (in) "Thermistor Voltage Sense Input 1. Connect thermistor 1 between THER1 and ground and an external resistor REXT3 between THER1 and VREF", 11 ~{OVERT} (oc) "Overtemperature Active-Low, Open-Drain Output. O\V\E\R\T\ asserts low when the temperature of channels 1, 4, 5, and 6 exceed the programmed threshold limit.", 12 VCC (power) "Supply Voltage Input. Bypass to GND with a 0.1uF capacitor.", 13 ~{ALERT} (oc) "SMBus Alert (Interrupt), Active-Low, Open-Drain Output. A\L\E\R\T\ asserts low when the temperature of channels 1, 4, 5, and 6 exceed programmed threshold limit.", 14 SMBDATA (io) "SMBus Serial-Data Input/Output. Connect to a pullup resistor.", 15 SMBCLK (in) "SMBus Serial-Clock Input. Connect to a pullup resistor.", 16 GND (power) "Ground"

## MAX6698EE99-T
designator U?
7-Channel Precision Remote-Diode, Thermistor, and Local Temperature Monitor, 11 Bits Temperature Resolution, -40 to 125 degC, 16-Pin SOP (E16-1), Tape and Reel; Generic Part Number: MAX6698; PartNumber: MAX6698EE99-T; Alarm Output: Alert, Overt; Functions: Multi-Channel Temperature Monitor, Thermistor-to-Digital Converter; Interface: 2-Wire/I2C/SMBus; Parasite Pwr.: No; DatasheetVersion: Rev. 3; PackageVersion: Rev. K, 04/2012; PackageReference: E16-1; PackageDescription: 16-Pin Quarter Small-Outline Package (E16-1), Body 4.90 x 3.89 mm, Pitch 0.635 mm; Supplier 1: Mouser; Supplier Part Number 1: N/A; Packing: Tape and Reel; Mounting Technology: Surface Mount; Code_JEDEC: MO137; ComponentLink1Description: Manufacturer URL; ComponentLink1URL: http://www.maximintegrated.com/; ComponentLink2Description: Datasheet; ComponentLink2URL: http://datasheets.maximintegrated.com/en/ds/MAX6698.pdf; ComponentLink3Description: Package Specification; ComponentLink3URL: http://pdfserv.maximintegrated.com/package_dwgs/21-0055.PDF
footprint MAXM-E16-1_N (SOP, 16-Leads, Body 4.9x3.89mm, Pitch 0.635mm, IPC Medium Density)
footprint MAXM-E16-1_L (SOP, 16-Leads, Body 4.9x3.89mm, Pitch 0.635mm, IPC High Density)
footprint MAXM-E16-1_M (SOP, 16-Leads, Body 4.9x3.89mm, Pitch 0.635mm, IPC Low Density)
pins: 1 DXP1 "Combined Current Source and A/D Positive Input for Channel 1 Remote Diode. Connect to the anode of a remote-diode-connected temperature-sensing transistor. Leave floating or connect to VCC if no remote diode is used. Place a (See Datasheet)", 2 DXN1 "Cathode Input for Channel 1 Remote Diode. Connect the cathode of the channel 1 remote-diodeconnected transistor to DXN1.", 3 DXP2 "Combined Current Source and A/D Positive Input for Channel 2 Remote Diode. Connect to the anode of a remote-diode-connected temperature-sensing transistor. Leave floating or connect to VCC if no remote diode is used. Place a (See Datasheet)", 4 DXN2 "Cathode Input for Channel 2 Remote Diode. Connect the cathode of the channel 2 remote-diodeconnected transistor to DXN2.", 5 DXP3 "Combined Current Source and A/D Positive Input for Channel 3 Remote Diode. Connect to the anode of a remote-diode-connected temperature-sensing transistor. Leave floating or connect to VCC if no remote diode is used. Place a (See Datasheet)", 6 DXN3 "Cathode Input for Channel 3 Remote Diode. Connect the cathode of the channel 1 remote-diodeconnected transistor to DXN3.", 7 THER3 (in) "Thermistor Voltage Sense Input 3. Connect thermistor 3 between THER3 and ground and an external resistor REXT3 between THER3 and VREF.", 8 VREF (out) "Thermistor Reference Voltage (1V Nominal). VREF is automatically enabled for a thermistor conversion, and is disabled for diode measurements.", 9 THER2 (in) "Thermistor Voltage Sense Input 2. Connect thermistor 2 between THER2 and ground and an external resistor REXT3 between THER2 and VREF.", 10 THER1 (in) "Thermistor Voltage Sense Input 1. Connect thermistor 1 between THER1 and ground and an external resistor REXT3 between THER1 and VREF", 11 ~{OVERT} (oc) "Overtemperature Active-Low, Open-Drain Output. O\V\E\R\T\ asserts low when the temperature of channels 1, 4, 5, and 6 exceed the programmed threshold limit.", 12 VCC (power) "Supply Voltage Input. Bypass to GND with a 0.1uF capacitor.", 13 ~{ALERT} (oc) "SMBus Alert (Interrupt), Active-Low, Open-Drain Output. A\L\E\R\T\ asserts low when the temperature of channels 1, 4, 5, and 6 exceed programmed threshold limit.", 14 SMBDATA (io) "SMBus Serial-Data Input/Output. Connect to a pullup resistor.", 15 SMBCLK (in) "SMBus Serial-Clock Input. Connect to a pullup resistor.", 16 GND (power) "Ground"

## MAX6698UE9C
designator U?
7-Channel Precision Remote-Diode, Thermistor, and Local Temperature Monitor, 11 Bits Temperature Resolution, -40 to 125 degC, 16-Pin SOP (U16-1); Generic Part Number: MAX6698; PartNumber: MAX6698UE9C; Alarm Output: Alert, Overt; Functions: Multi-Channel Temperature Monitor, Thermistor-to-Digital Converter; Interface: 2-Wire/I2C/SMBus; Parasite Pwr.: No; DatasheetVersion: Rev. 3; PackageVersion: Rev. L, 07/2010; PackageReference: U16-1; PackageDescription: 16-Pin Thin Shrink Small-Outline Package (U16-1), Body 5 x 4.4 mm, Pitch 0.65 mm; Supplier 1: Mouser; Supplier Part Number 1: N/A; Mounting Technology: Surface Mount; Code_JEDEC: MO-153; ComponentLink1Description: Manufacturer URL; ComponentLink1URL: http://www.maximintegrated.com/; ComponentLink2Description: Datasheet; ComponentLink2URL: http://datasheets.maximintegrated.com/en/ds/MAX6698.pdf; ComponentLink3Description: Package Specification; ComponentLink3URL: http://pdfserv.maximintegrated.com/package_dwgs/21-0066.PDF
footprint MAXM-U16-1_N (SOP, 16-Leads, Body 5x4.4mm, Pitch 0.65mm, IPC Medium Density)
footprint MAXM-U16-1_L (SOP, 16-Leads, Body 5x4.4mm, Pitch 0.65mm, IPC High Density)
footprint MAXM-U16-1_M (SOP, 16-Leads, Body 5x4.4mm, Pitch 0.65mm, IPC Low Density)
pins: 1 DXP1 "Combined Current Source and A/D Positive Input for Channel 1 Remote Diode. Connect to the anode of a remote-diode-connected temperature-sensing transistor. Leave floating or connect to VCC if no remote diode is used. Place a (See Datasheet)", 2 DXN1 "Cathode Input for Channel 1 Remote Diode. Connect the cathode of the channel 1 remote-diodeconnected transistor to DXN1.", 3 DXP2 "Combined Current Source and A/D Positive Input for Channel 2 Remote Diode. Connect to the anode of a remote-diode-connected temperature-sensing transistor. Leave floating or connect to VCC if no remote diode is used. Place a (See Datasheet)", 4 DXN2 "Cathode Input for Channel 2 Remote Diode. Connect the cathode of the channel 2 remote-diodeconnected transistor to DXN2.", 5 DXP3 "Combined Current Source and A/D Positive Input for Channel 3 Remote Diode. Connect to the anode of a remote-diode-connected temperature-sensing transistor. Leave floating or connect to VCC if no remote diode is used. Place a (See Datasheet)", 6 DXN3 "Cathode Input for Channel 3 Remote Diode. Connect the cathode of the channel 1 remote-diodeconnected transistor to DXN3.", 7 THER3 (in) "Thermistor Voltage Sense Input 3. Connect thermistor 3 between THER3 and ground and an external resistor REXT3 between THER3 and VREF.", 8 VREF (out) "Thermistor Reference Voltage (1V Nominal). VREF is automatically enabled for a thermistor conversion, and is disabled for diode measurements.", 9 THER2 (in) "Thermistor Voltage Sense Input 2. Connect thermistor 2 between THER2 and ground and an external resistor REXT3 between THER2 and VREF.", 10 THER1 (in) "Thermistor Voltage Sense Input 1. Connect thermistor 1 between THER1 and ground and an external resistor REXT3 between THER1 and VREF", 11 ~{OVERT} (oc) "Overtemperature Active-Low, Open-Drain Output. O\V\E\R\T\ asserts low when the temperature of channels 1, 4, 5, and 6 exceed the programmed threshold limit.", 12 VCC (power) "Supply Voltage Input. Bypass to GND with a 0.1uF capacitor.", 13 ~{ALERT} (oc) "SMBus Alert (Interrupt), Active-Low, Open-Drain Output. A\L\E\R\T\ asserts low when the temperature of channels 1, 4, 5, and 6 exceed programmed threshold limit.", 14 SMBDATA (io) "SMBus Serial-Data Input/Output. Connect to a pullup resistor.", 15 SMBCLK (in) "SMBus Serial-Clock Input. Connect to a pullup resistor.", 16 GND (power) "Ground"

## MAX6698UE9C+
designator U?
7-Channel Precision Remote-Diode, Thermistor, and Local Temperature Monitor, 11 Bits Temperature Resolution, -40 to 125 degC, 16-Pin SOP (U16+1), Pb-Free; Generic Part Number: MAX6698; PartNumber: MAX6698UE9C+; Alarm Output: Alert, Overt; Functions: Multi-Channel Temperature Monitor, Thermistor-to-Digital Converter; Interface: 2-Wire/I2C/SMBus; Parasite Pwr.: No; DatasheetVersion: Rev. 3; PackageVersion: Rev. L, 07/2010; PackageReference: U16+1; PackageDescription: 16-Pin Thin Shrink Small-Outline Package (U16+1), Body 5 x 4.4 mm, Pitch 0.65 mm; Supplier 1: Digi-Key; Supplier Part Number 1: MAX6698UE9C+-ND; Supplier 2: Mouser; Supplier Part Number 2: 700-MAX6698UE9C; Mounting Technology: Surface Mount; Code_JEDEC: MO-153; ComponentLink1Description: Manufacturer URL; ComponentLink1URL: http://www.maximintegrated.com/; ComponentLink2Description: Datasheet; ComponentLink2URL: http://datasheets.maximintegrated.com/en/ds/MAX6698.pdf; ComponentLink3Description: Package Specification; ComponentLink3URL: http://pdfserv.maximintegrated.com/package_dwgs/21-0066.PDF
footprint MAXM-U16+1_N (SOP, 16-Leads, Body 5x4.4mm, Pitch 0.65mm, IPC Medium Density)
footprint MAXM-U16+1_L (SOP, 16-Leads, Body 5x4.4mm, Pitch 0.65mm, IPC High Density)
footprint MAXM-U16+1_M (SOP, 16-Leads, Body 5x4.4mm, Pitch 0.65mm, IPC Low Density)
pins: 1 DXP1 "Combined Current Source and A/D Positive Input for Channel 1 Remote Diode. Connect to the anode of a remote-diode-connected temperature-sensing transistor. Leave floating or connect to VCC if no remote diode is used. Place a (See Datasheet)", 2 DXN1 "Cathode Input for Channel 1 Remote Diode. Connect the cathode of the channel 1 remote-diodeconnected transistor to DXN1.", 3 DXP2 "Combined Current Source and A/D Positive Input for Channel 2 Remote Diode. Connect to the anode of a remote-diode-connected temperature-sensing transistor. Leave floating or connect to VCC if no remote diode is used. Place a (See Datasheet)", 4 DXN2 "Cathode Input for Channel 2 Remote Diode. Connect the cathode of the channel 2 remote-diodeconnected transistor to DXN2.", 5 DXP3 "Combined Current Source and A/D Positive Input for Channel 3 Remote Diode. Connect to the anode of a remote-diode-connected temperature-sensing transistor. Leave floating or connect to VCC if no remote diode is used. Place a (See Datasheet)", 6 DXN3 "Cathode Input for Channel 3 Remote Diode. Connect the cathode of the channel 1 remote-diodeconnected transistor to DXN3.", 7 THER3 (in) "Thermistor Voltage Sense Input 3. Connect thermistor 3 between THER3 and ground and an external resistor REXT3 between THER3 and VREF.", 8 VREF (out) "Thermistor Reference Voltage (1V Nominal). VREF is automatically enabled for a thermistor conversion, and is disabled for diode measurements.", 9 THER2 (in) "Thermistor Voltage Sense Input 2. Connect thermistor 2 between THER2 and ground and an external resistor REXT3 between THER2 and VREF.", 10 THER1 (in) "Thermistor Voltage Sense Input 1. Connect thermistor 1 between THER1 and ground and an external resistor REXT3 between THER1 and VREF", 11 ~{OVERT} (oc) "Overtemperature Active-Low, Open-Drain Output. O\V\E\R\T\ asserts low when the temperature of channels 1, 4, 5, and 6 exceed the programmed threshold limit.", 12 VCC (power) "Supply Voltage Input. Bypass to GND with a 0.1uF capacitor.", 13 ~{ALERT} (oc) "SMBus Alert (Interrupt), Active-Low, Open-Drain Output. A\L\E\R\T\ asserts low when the temperature of channels 1, 4, 5, and 6 exceed programmed threshold limit.", 14 SMBDATA (io) "SMBus Serial-Data Input/Output. Connect to a pullup resistor.", 15 SMBCLK (in) "SMBus Serial-Clock Input. Connect to a pullup resistor.", 16 GND (power) "Ground"